# EAGLE library part ALEXIOS_74*161 (library CFT-PB0-revB)
4-Bit Synchronous Binary Counter. 4-bit synchronous binary counter with asynchronous reset. The ?AC163 devices are 4-bit binary counters. These synchronous, presettable counters feature an internal carry look-ahead for application in high-speed counting designs. Synchronous operation is provided by having all flip-flops clocked simultaneously so that the outputs change, coincident with each other, when instructed by the count-enable (ENP, ENT) inputs and internal gating.
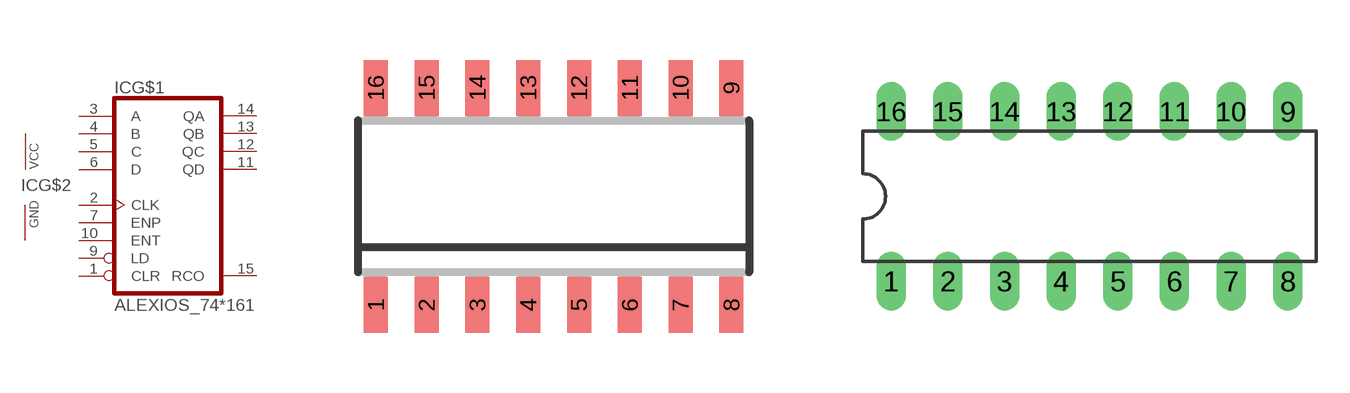
[diagram p5: symbol with the pads of ALEXIOS_SO16D; footprints ALEXIOS_SO16D, ALEXIOS_DIL16]

Designator prefix IC; gates G$1=ALEXIOS_74X163 G$2=ALEXIOS_PWRGND

## ALEXIOS_74161D, ALEXIOS_74AC161D, ALEXIOS_74ACT161D, ALEXIOS_74F161D, ALEXIOS_74HC161D, ALEXIOS_74HCT161D, ALEXIOS_74LS161D  [ALEXIOS_SO16D]
1  G$1:CLR  in
2  G$1:CLK  in
3  G$1:A  in
4  G$1:B  in
5  G$1:C  in
6  G$1:D  in
7  G$1:ENP  in
8  G$2:GND  pwr
9  G$1:LD  in
10  G$1:ENT  in
11  G$1:QD  out
12  G$1:QC  out
13  G$1:QB  out
14  G$1:QA  out
15  G$1:RCO  out
16  G$2:VCC  pwr

## ALEXIOS_74161N, ALEXIOS_74AC161N, ALEXIOS_74ACT161N, ALEXIOS_74F161N, ALEXIOS_74HC161N, ALEXIOS_74HCT161N, ALEXIOS_74LS161N  [ALEXIOS_DIL16]
Pads as for ALEXIOS_SO16D

## Footprint ALEXIOS_SO16D (pad centres in mm)
smd 0.6 x 1.4: 1 -4.445,-2.715; 2 -3.175,-2.715; 3 -1.905,-2.715; 4 -0.635,-2.715; 5 0.635,-2.715; 6 1.905,-2.715; 7 3.175,-2.715; 8 4.445,-2.715; 9 4.445,2.715; 10 3.175,2.715; 11 1.905,2.715; 12 0.635,2.715; 13 -0.635,2.715; 14 -1.905,2.715; 15 -3.175,2.715; 16 -4.445,2.715

## Footprint ALEXIOS_DIL16 (pad centres in mm)
Dual In Line Package
drill 0.813 long: 1 -8.89,-3.81; 2 -6.35,-3.81; 3 -3.81,-3.81; 4 -1.27,-3.81; 5 1.27,-3.81; 6 3.81,-3.81; 7 6.35,-3.81; 8 8.89,-3.81; 9 8.89,3.81; 10 6.35,3.81; 11 3.81,3.81; 12 1.27,3.81; 13 -1.27,3.81; 14 -3.81,3.81; 15 -6.35,3.81; 16 -8.89,3.81